# Altium footprint library MillMax.PcbLib: 1 footprints
Each footprint in its own frame and in the unit in brackets; x right, y up, seen from the top. Pads: shape width x height; smd on the part's side, far side on the other; paste and mask are expansions set on the pad; w line width, h text height; cw(c..) or ccw(c..) is an arc to the next point about the centre after c.
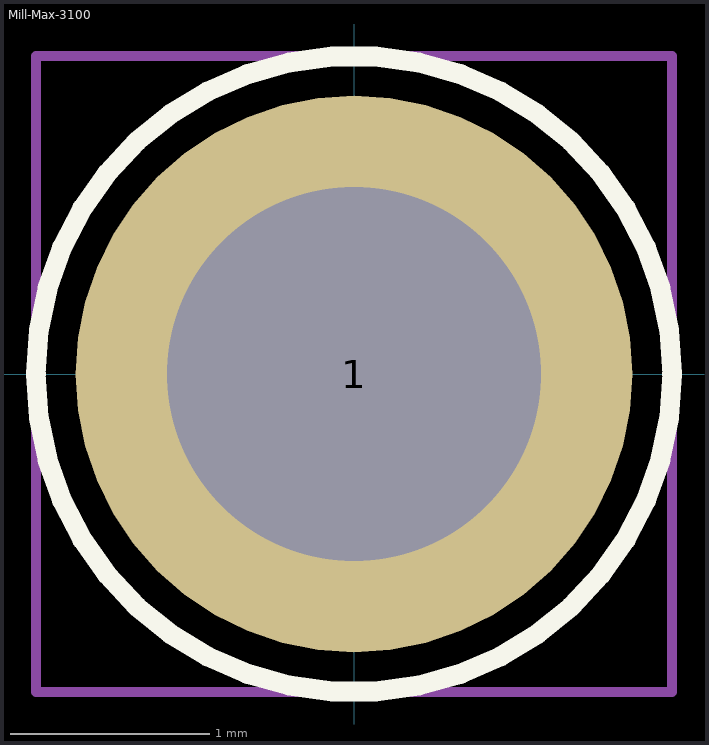
[diagram p0: the footprint, top view; thin cyan lines are the x and y axes]

## Mill-Max-3100 [mm]
pads (1):
  round 2.8 hole 1.88: 1(0,0)
Top Overlay:
  circle w0.1: c0,0 r1.6
Mechanical 13:
  circle w0.1: c0,0 r1.145
Mechanical 15:
  lines w0.05: -1.6,-1.6 1.6,-1.6 1.6,1.6 -1.6,1.6 -1.6,-1.6
  text ".Designator" at -1.27,-0.135 h0.7
3D body "mill-max-3100-0-15-15-34-XX-10-0.step": height 2.51, standoff -6.45, extent -1.13,-1.13 1.13,1.13